# EAGLE library part MCP3208T-CI_SL (library oneLab Lib)
Microchip Technology MCP3208T-CI/SL, 12 bit Serial ADC Pseudo Differential Input, 16-Pin SOIC Source: Datasheet <https://ww1.microchip.com/downloads/en/DeviceDoc/21298c.pdf>
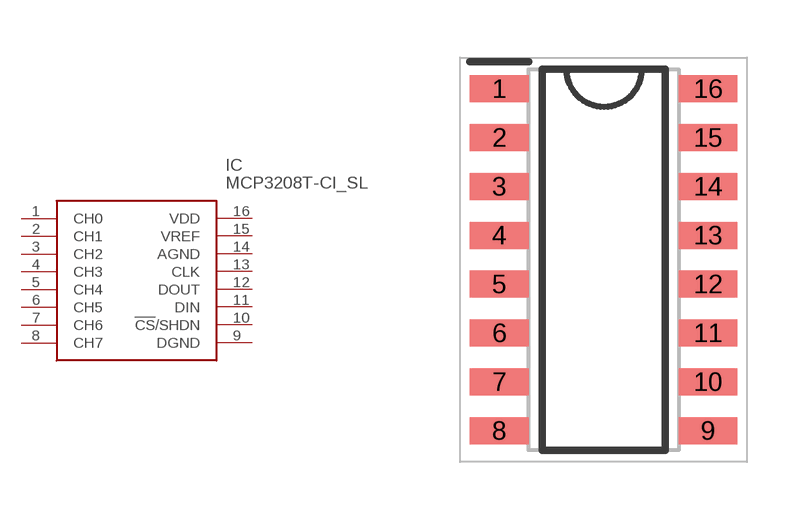
[diagram p0: symbol with the pads of SOIC127P600X175-16N; footprint SOIC127P600X175-16N]

Designator prefix IC

## MCP3208T-CI_SL (ARROW_PART_NUMBER: MCP3208T-CI/SL; ARROW_PRICE-STOCK: https://www.arrow.com/en/products/mcp3208t-cisl/microchip-technology; DESCRIPTION: Microchip Technology MCP3208T-CI/SL, 12 bit Serial ADC Pseudo Differential Input, 16-Pin SOIC; HEIGHT: 1.75mm; MANUFACTURER_NAME: Microchip; MANUFACTURER_PART_NUMBER: MCP3208T-CI/SL; MOUSER_PART_NUMBER: 579-MCP3208T-CI/SL; MOUSER_PRICE-STOCK: https://www.mouser.co.uk/ProductDetail/Microchip-Technology/MCP3208T-CI-SL?qs=qUiwOUCta0eE3HgCyUY2CA%3D%3D)  [SOIC127P600X175-16N]
1  CH0
2  CH1
3  CH2
4  CH3
5  CH4
6  CH5
7  CH6
8  CH7
9  DGND
10  !CS!/SHDN
11  DIN
12  DOUT
13  CLK
14  AGND
15  VREF
16  VDD

## Footprint SOIC127P600X175-16N (pad centres in mm)
SOIC-16
smd 1.525 x 0.7: 1 -2.712,4.445; 2 -2.712,3.175; 3 -2.712,1.905; 4 -2.712,0.635; 5 -2.712,-0.635; 6 -2.712,-1.905; 7 -2.712,-3.175; 8 -2.712,-4.445; 9 2.712,-4.445; 10 2.712,-3.175; 11 2.712,-1.905; 12 2.712,-0.635; 13 2.712,0.635; 14 2.712,1.905; 15 2.712,3.175; 16 2.712,4.445